# EAGLE library part LM2678SD-ADJ/NOPB (library BUCK, 5.2V - LM2678SX-ADJNOPB)
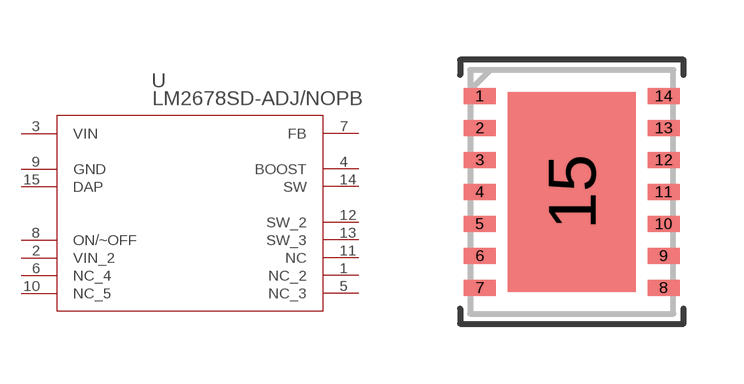
[diagram p0: symbol with the pads of SRC14A; footprint SRC14A]

Designator prefix U

## LM2678SD-ADJ/NOPB (COPYRIGHT: Copyright (C) 2021 Ultra Librarian. All rights reserved.; DIGI-KEY_PART_NUMBER_1: 2156-LM2678SD-ADJ/NOPB-ND; DIGI-KEY_PART_NUMBER_2: 2156-LM2678SD-ADJ/NOPB-TI-ND; DIGI-KEY_PART_NUMBER_3: LM2678SD-ADJ/NOPBCT-ND; DIGI-KEY_PART_NUMBER_4: LM2678SD-ADJ/NOPBDKR-ND; DIGI-KEY_PART_NUMBER_5: LM2678SD-ADJ/NOPBTR-ND; MANUFACTURER_PART_NUMBER: LM2678SD-ADJ/NOPB; MFR_NAME: Texas Instruments; TYPE: LM2678SD-12)  [SRC14A]
1  NC_2  pas
2  VIN_2  in
3  VIN  in
4  BOOST  pas
5  NC_3  pas
6  NC_4  pas
7  FB  pas
8  ON/~OFF  pas
9  GND  pas
10  NC_5  pas
11  NC  pas
12  SW_2  out
13  SW_3  out
14  SW  out
15  DAP  pas

## Footprint SRC14A (pad centres in mm)
smd 0.8 x 0.4: 1 -2.3,2.4; 2 -2.3,1.6; 3 -2.3,0.8; 4 -2.3,0; 5 -2.3,-0.8; 6 -2.3,-1.6; 7 -2.3,-2.4; 8 2.3,-2.4; 9 2.3,-1.6; 10 2.3,-0.8; 11 2.3,0; 12 2.3,0.8; 13 2.3,1.6; 14 2.3,2.4
smd 3.2 x 5: 15 0,0